# EAGLE library part FFC_20V_90G_1MM (library MarcEagleParts)
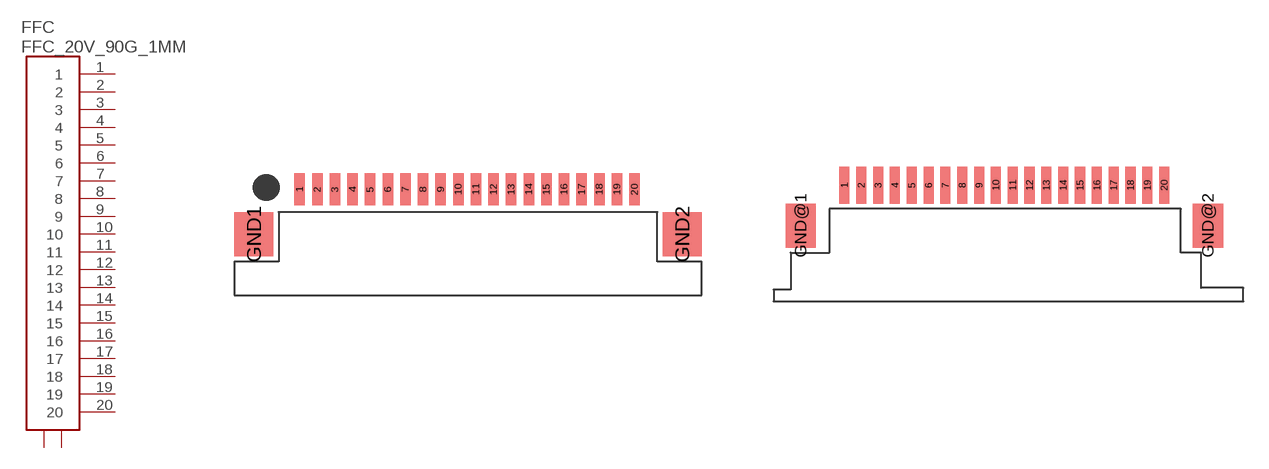
[diagram p3: symbol with the pads of SAMTEC_ZF1-T-WT; footprints SAMTEC_ZF1-T-WT, WE_ZIF-FCC]

Designator prefix FFC

## FFC_20V_90G_1MM1  [SAMTEC_ZF1-T-WT]
1  1
2  2
3  3
4  4
5  5
6  6
7  7
8  8
9  9
10  10
11  11
12  12
13  13
14  14
15  15
16  16
17  17
18  18
19  19
20  20
GND1  GND
GND2  GND

## FFC_20V_90G_1MM2  [WE_ZIF-FCC]
1  1
2  2
3  3
4  4
5  5
6  6
7  7
8  8
9  9
10  10
11  11
12  12
13  13
14  14
15  15
16  16
17  17
18  18
19  19
20  20
GND@1  GND
GND@2  GND

## FFC_20V_90G_1MM3  [FCI_20WAY_1MM_3ST]
Pads as for SAMTEC_ZF1-T-WT

## Footprint SAMTEC_ZF1-T-WT (pad centres in mm)
smd 0.6 x 1.8: 1 0.3,0.9; 2 1.3,0.9; 3 2.3,0.9; 4 3.3,0.9; 5 4.3,0.9; 6 5.3,0.9; 7 6.3,0.9; 8 7.3,0.9; 9 8.3,0.9; 10 9.3,0.9; 11 10.3,0.9; 12 11.3,0.9; 13 12.3,0.9; 14 13.3,0.9; 15 14.3,0.9; 16 15.3,0.9; 17 16.3,0.9; 18 17.3,0.9; 19 18.3,0.9; 20 19.3,0.9
smd 2.2 x 2.5: GND1 -2.3,-1.64; GND2 22,-1.64

## Footprint WE_ZIF-FCC (pad centres in mm)
smd 0.6 x 2.2: 1 3.5,3.7; 2 4.5,3.7; 3 5.5,3.7; 4 6.5,3.7; 5 7.5,3.7; 6 8.5,3.7; 7 9.5,3.7; 8 10.5,3.7; 9 11.5,3.7; 10 12.5,3.7; 11 13.5,3.7; 12 14.5,3.7; 13 15.5,3.7; 14 16.5,3.7; 15 17.5,3.7; 16 18.5,3.7; 17 19.5,3.7; 18 20.5,3.7; 19 21.5,3.7; 20 22.5,3.7
smd 1.8 x 2.6: GND@1 0.9,1.3; GND@2 25.1,1.3

## Footprint FCI_20WAY_1MM_3ST (pad centres in mm)
smd 0.6 x 2: 1 -9.5,2.5; 2 -8.5,2.5; 3 -7.5,2.5; 4 -6.5,2.5; 5 -5.5,2.5; 6 -4.5,2.5; 7 -3.5,2.5; 8 -2.5,2.5; 9 -1.5,2.5; 10 -0.5,2.5; 11 0.5,2.5; 12 1.5,2.5; 13 2.5,2.5; 14 3.5,2.5; 15 4.5,2.5; 16 5.5,2.5; 17 6.5,2.5; 18 7.5,2.5; 19 8.5,2.5; 20 9.5,2.5
smd 0.7 x 4.2: GND1 -10.5,0.4; GND2 10.5,0.4